# Altium schematic symbol library CAS.SchLib: 12 symbols
Pins are listed as number, name and electrical type; pins without a type are passive.

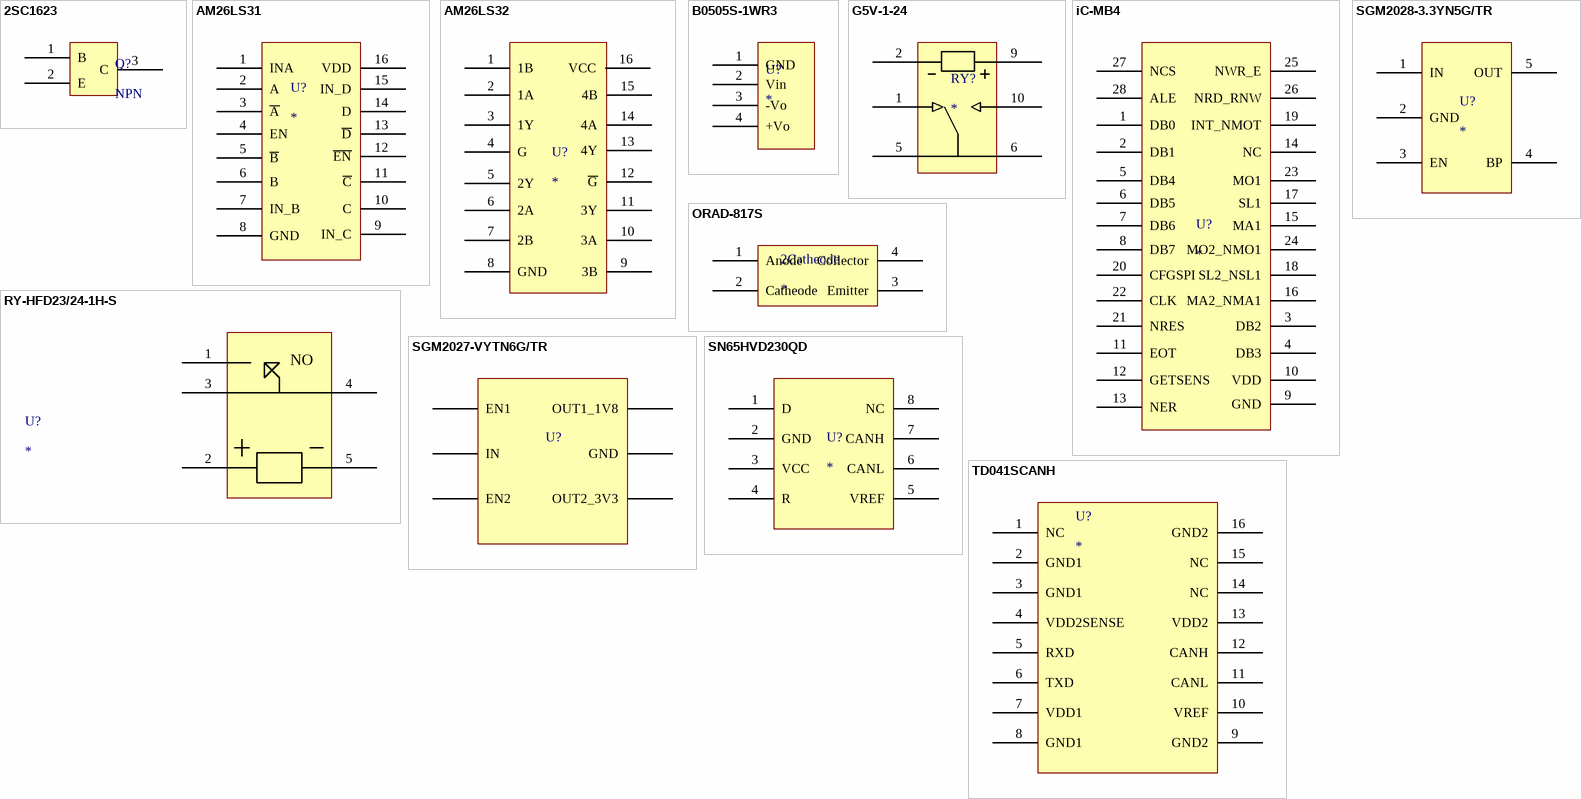
[diagram p0: symbols 2SC1623 to TD041SCANH]

## 2SC1623
designator Q?, comment NPN
江苏长晶 100mA NPN三极管
pins: 1 B, 2 E, 3 C

## AM26LS31
designator U?
AM32LS31 单端转差分芯片
pins: 1 INA, 2 A, 3 ~{A}, 4 EN, 5 ~{B}, 6 B, 7 IN_B, 8 GND, 9 IN_C, 10 C, 11 ~{C}, 12 ~{EN}, 13 ~{D}, 14 D, 15 IN_D, 16 VDD

## AM26LS32
designator U?
AM26LS32 差分转单端
pins: 1 1B, 2 1A, 3 1Y, 4 G, 5 2Y, 6 2A, 7 2B, 8 GND, 9 3B, 10 3A, 11 3Y, 12 ~{G}, 13 4Y, 14 4A, 15 4B, 16 VCC

## B0505S-1WR3
designator U?
海凌科 1W 5V-5V隔离 DC/DC电源
pins: 1 GND, 2 Vin, 3 -Vo, 4 +Vo

## G5V-1-24
designator RY?
欧姆龙继电器 24V线圈
pins: 1, 2, 5, 6, 9, 10

## iC-MB4
designator U?
SPI转BiSS主站芯片
pins: 1 DB0, 2 DB1, 3 DB2, 4 DB3, 5 DB4, 6 DB5, 7 DB6, 8 DB7, 9 GND, 10 VDD, 11 EOT, 12 GETSENS, 13 NER, 14 NC, 15 MA1, 16 MA2_NMA1, 17 SL1, 18 SL2_NSL1, 19 INT_NMOT, 20 CFGSPI, 21 NRES, 22 CLK, 23 MO1, 24 MO2_NMO1, 25 NWR_E, 26 NRD_RNW, 27 NCS, 28 ALE

## ORAD-817S
designator 2Catheode
pins: 1 Anode, 2 Catheode, 3 Emitter, 4 Collector

## RY-HFD23/24-1H-S
designator U?
灵敏型 24V线圈电压 宏发继电器
pins: 1, 2, 3, 4, 5
text: NO

## SGM2027-VYTN6G/TR
designator U?
圣邦微双路3.3、1.8VLDO TSOT-23-6封装
pins: 1 EN1, 2 IN, 3 EN2, 4 OUT2_3V3, 6 GND, 7 OUT1_1V8

## SGM2028-3.3YN5G/TR
designator U?
圣邦微定点3.3V LDO 500mA
pins: 1 IN, 2 GND, 3 EN, 4 BP, 5 OUT

## SN65HVD230QD
designator U?
CAN收发器 SOIC8封装
pins: 1 D, 2 GND, 3 VCC, 4 R, 5 VREF, 6 CANL, 7 CANH, 8 NC

## TD041SCANH
designator U?
金升阳CAN收发器
pins: 1 NC, 2 GND1, 3 GND1, 4 VDD2SENSE, 5 RXD, 6 TXD, 7 VDD1, 8 GND1, 9 GND2, 10 VREF, 11 CANL, 12 CANH, 13 VDD2, 14 NC, 15 NC, 16 GND2